# Altium footprint library Battery.PcbLib: 59 footprints (part 4 of 4)
Each footprint in its own frame and in the unit in brackets; x right, y up, seen from the top. Pads: shape width x height; smd on the part's side, far side on the other; paste and mask are expansions set on the pad; w line width, h text height; cw(c..) or ccw(c..) is an arc to the next point about the centre after c.
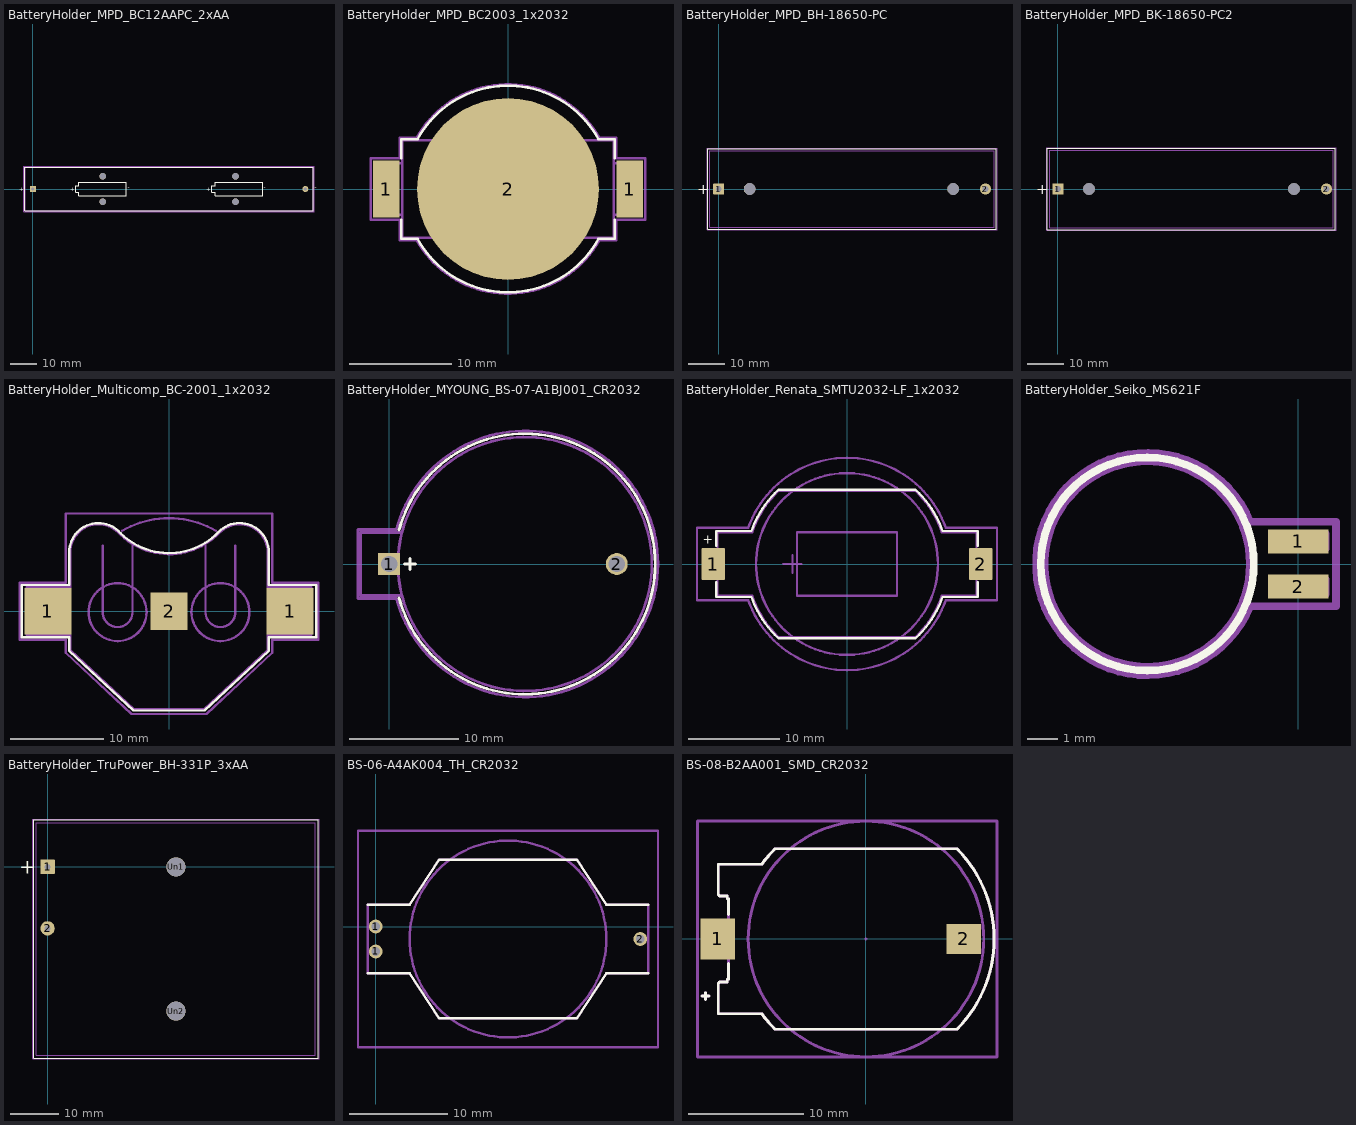
[diagram p3: the footprints below, top view; thin cyan lines are the x and y axes]

## BatteryHolder_MPD_BC12AAPC_2xAA [mm]
pads (6):
  rect 2.23x2.23 hole 1.23: 1(0,0)
  round 2.23 hole 1.23: 2(102,0)
  round 2.5 hole 2.5: Un1(26.15,4.75) Un2(26.15,-4.75) Un3(75.85,4.75) Un4(75.85,-4.75)
F.SilkS:
  lines w0.254: -3,-8.2 105,-8.2 105,8.2 -3,8.2 -3,-8.2 ; 15.975,-1.27 17.245,-1.27 17.245,-2.54 35.025,-2.54 35.025,2.54 17.245,2.54 17.245,1.27 15.975,1.27 15.975,-1.27 ; 66.975,-1.27 68.245,-1.27 68.245,-2.54 86.025,-2.54 86.025,2.54 68.245,2.54 68.245,1.27 66.975,1.27 66.975,-1.27
  text "+" at 64.912,-0.793 h1.5
  text "-" at 86.502,-0.15 h1.5
  text "-" at 35.502,-0.15 h1.5
  text "-" at 105.607,-0.15 h1.5
  text "+" at -5.193,-0.793 h1.5
  text "+" at 13.912,-0.793 h1.5
Top Assembly:
  lines w0.254: -2.9,-8.1 104.9,-8.1 104.9,8.1 -2.9,8.1 -2.9,-8.1
  text "'.Designator'" at 46.953,-0.84 h1
Top Courtyard:
  lines w0.254: -3.4,-8.6 105.4,-8.6 105.4,8.6 -3.4,8.6 -3.4,-8.6
Top Designator:
  text ".Designator" at 43.232,-0.508 h1.52

## BatteryHolder_MPD_BC2003_1x2032 [mm]
pads (3):
  rect 2.6x5.56 smd: 1(-11.905,0) 1(11.905,0)
  round 17.8 smd: 2(0,0)
F.SilkS:
  lines w0.254: -10.47,-3 -10.47,-4.885 -8.863,-4.885 ccw(c0,0) 8.865,-4.881 ; -10.47,3 -10.47,4.885 -8.863,4.885 cw(c0,0) 8.863,4.885 10.47,4.885 10.47,3 ; 8.863,-4.885 10.47,-4.885 10.47,-3
Top Assembly:
  lines w0.254: -10.35,-2.525 -12,-2.525 -12.7,-1.825 -12.7,1.825 -12,2.525 -10.35,2.525 ; 10.35,-2.525 12,-2.525 12.7,-1.825 12.7,1.825 12,2.525 10.35,2.525 ; -10.35,-4.765 10.35,-4.765 10.35,4.765 -10.35,4.765 -10.35,-4.765
  text "'.Designator'" at -4.047,-0.84 h1
Top Courtyard:
  lines w0.254: -8.94,5.01 -10.6,5.01 -10.6,3.03 -13.45,3.03 -13.45,-3.03 -10.6,-3.03 -10.6,-5.01 -8.94,-5.01 ccw(c0,0) 8.925,-5.036 ; -8.934,5.02 cw(c0,0) 8.94,5.01 10.6,5.01 10.6,3.03 13.45,3.03 13.45,-3.03 10.6,-3.03 10.6,-5.01 8.94,-5.01
Top Designator:
  text ".Designator" at -7.618,-0.508 h1.52

## BatteryHolder_MPD_BH-18650-PC [mm]
pads (4):
  rrect8% 3x3 hole 1.57: 1(0,0)
  round 3 hole 1.57: 2(72.9,0)
  round 3.2 hole 3.2: Un1(8.445,0) Un2(64.055,0)
F.SilkS:
  lines w0.254: -3.01,-11.06 75.91,-11.06 75.91,11.06 -3.01,11.06 -3.01,-11.06
  text "+" at -5.935,-1.485 h3
Top Assembly:
  lines w0.254: -2.4,-10.45 75.3,-10.45 75.3,10.45 -2.4,10.45 -2.4,-10.45
  text "+" at 2.565,-1.235 h3
  text "'.Designator'" at 32.403,-0.84 h1
Top Courtyard:
  lines w0.254: -3.15,-11.2 76.05,-11.2 76.05,11.2 -3.15,11.2 -3.15,-11.2
Top Designator:
  text ".Designator" at 27.428,-0.508 h1.52

## BatteryHolder_MPD_BK-18650-PC2 [mm]
pads (4):
  rrect8% 3x3 hole 1.57: 1(0,0)
  round 3 hole 1.57: 2(72.9,0)
  round 3.2 hole 3.2: Un1(8.445,0) Un2(64.055,0)
F.SilkS:
  lines w0.254: -2.84,-11.1 -2.84,11.1 75.34,11.1 75.34,-11.1 -2.84,-11.1
  text "+" at -5.935,-1.485 h3
Top Assembly:
  lines w0.254: -2.23,-10.49 -2.23,10.49 74.73,10.49 74.73,-10.49 -2.23,-10.49
  text "'.Designator'" at 32.203,-0.84 h1
  text "+" at 2.565,-1.235 h3
Top Courtyard:
  lines w0.254: -2.98,-11.24 -2.98,11.24 75.48,11.24 75.48,-11.24 -2.98,-11.24
Top Designator:
  text ".Designator" at 27.143,-0.508 h1.52

## BatteryHolder_Multicomp_BC-2001_1x2032 [mm]
pads (3):
  rect 5x5 smd: 1(-12.95,0) 1(12.95,0)
  rect 4x4 smd: 2(0,0)
F.SilkS:
  lines w0.254: -10.68,6.28 -10.68,2.8 -15.75,2.8 -15.75,-2.8 -10.68,-2.8 -10.68,-4.25 -3.8,-10.63 3.8,-10.63 10.68,-4.25 10.68,-2.8 15.75,-2.8 15.75,2.8 10.68,2.8 10.68,6.35 ; -10.677,6.3 cw(c-7.55,6.3) -5.18,8.34 ; -5.17,8.33 ccw(c0,13.6) 5.306,8.467 ; 5.316,8.493 cw(c7.55,6.3) 10.68,6.3
Top Assembly:
  circle w0.254: c-12.95,0 r1.175
  circle w0.254: c-5.5,-0.1 r3.1
  circle w0.254: c5.5,-0.1 r3.1
  circle w0.254: c12.95,0 r1.175
  lines w0.254: -10.555,6.3 cw(c-7.55,6.3) -5.45,8.45 ccw(c0,13.6) 5.352,8.348 ; -10.55,6.29 -10.55,2.55 -15.25,2.55 -15.25,-2.55 -10.55,-2.55 -10.55,-4.2 -3.75,-10.5 3.75,-10.5 10.55,-4.2 10.55,-2.55 15.25,-2.55 15.25,2.55 10.55,2.55 10.55,6.3 ccw(c7.55,6.3) 5.376,8.368 ; -7.1,7 -7.1,-0.1 ccw(c-5.5,-0.1) -3.9,-0.1 -3.9,7 ; -5.03,8.59 cw(c0,-0.06) 5.03,8.59 ; 3.9,7 3.9,-0.1 ccw(c5.5,-0.1) 7.1,-0.1 7.1,7
  text "'.Designator'" at -3.717,-5.73 h1
Top Courtyard:
  lines w0.254: -15.95,-3.05 -15.95,3.05 -11.05,3.05 -11.05,10.45 11.05,10.45 11.05,3.05 15.95,3.05 15.95,-3.05 11.05,-3.05 11.05,-4.45 4,-11 -4,-11 -11.05,-4.45 -11.05,-3.05 -15.95,-3.05
Top Designator:
  text ".Designator" at -7.618,-0.783 h1.52

## BatteryHolder_MYOUNG_BS-07-A1BJ001_CR2032 [mm]
pads (2):
  rect 2x2 hole 1.5: 1(0,0)
  round 2 hole 1.5: 2(20.8,0)
F.SilkS:
  lines w0.254: 0.9,-3.1 ccw(c12.4,0) 0.9,3.1 ; 1.4,0 2.4,0 ; 1.9,-0.5 1.9,0.5
Top Assembly:
  circle w0.254: c12.4,0 r11.6
  lines w0.254: 1.15,-2.875 -2.6,-2.875 -2.6,2.875 1.15,2.875
  text "'.Designator'" at 8.353,-0.84 h1
Top Courtyard:
  lines w0.254: -2.85,-3.15 0.65,-3.15 ccw(c12.4,0) 0.65,3.15 -2.85,3.15 -2.85,-3.15
Top Designator:
  text ".Designator" at 3.24,-0.508 h1.52

## BatteryHolder_Renata_SMTU2032-LF_1x2032 [mm]
pads (2):
  rrect8% 2.6x3.5 smd: 1(-14.7,0) 2(14.7,0)
F.SilkS:
  lines w0.254: -14.37,-2.01 -14.37,-3.62 -10.514,-3.62 ccw(c0.062,0.04) -7.544,-8.17 7.544,-8.17 ccw(c-0.062,0.04) 10.514,-3.62 14.37,-3.62 14.37,-2.01 ; -14.37,2.01 -14.37,3.62 -10.514,3.62 cw(c0.062,-0.04) -7.544,8.17 7.544,8.17 cw(c-0.062,-0.04) 10.514,3.62 14.37,3.62 14.37,2.01
  text "+" at -15.878,2.207 h1
Top Assembly:
  circle w0.254: c0,0 r10
  lines w0.254: -7,0 -5,0 ; -6,-1 -6,1 ; -14.25,-3.5 -14.25,3.5 -10.428,3.5 cw(c-0.005,0.003) -7.496,8.05 7.497,8.05 cw(c0.005,0.003) 10.428,3.5 14.25,3.5 14.25,-3.5 10.428,-3.5 cw(c0.005,-0.003) 7.496,-8.05 -7.497,-8.05 cw(c-0.005,-0.003) -10.428,-3.5 -14.25,-3.5
  text "'.Designator'" at -4.047,-0.84 h1
Top Courtyard:
  lines w0.254: -16.5,-4 -16.5,4 -10.86,4 cw(c0,0.165) 10.86,4 16.5,4 16.5,-4 10.86,-4 cw(c0,-0.165) -10.86,-4 -16.5,-4
Top Designator:
  text ".Designator" at -7.618,-0.508 h1.52
Cmts.User:
  lines w0.254: -5.5,-3.5 -5.5,3.5 5.5,3.5 5.5,-3.5 -5.5,-3.5
  text "Adhesive fixation" at -2.955,3.263 h0.5

## BatteryHolder_Seiko_MS621F [mm]
pads (2):
  rect 2x0.8 smd: 1(0,0.75) 2(0,-0.75)
F.SilkS:
  circle w0.254: c-5,0 r3.53
Top Assembly:
  circle w0.254: c-5,0 r3.4
  lines w0.254: 0.9,-1 0.9,-0.5 ; 0.9,0.5 0.9,1
  text "'.Designator'" at -3.073,-0.668 h0.75
Top Courtyard:
  lines w0.254: -1.591,1.403 ccw(c-5,0) -1.59,-1.4 1.25,-1.4 1.25,1.4 -1.59,1.4
Top Designator:
  text ".Designator" at -10.563,-0.508 h1.52

## BatteryHolder_TruPower_BH-331P_3xAA [mm]
pads (4):
  rrect8% 3x3 hole 1.2: 1(0,0)
  round 3 hole 1.2: 2(0,-12.8)
  round 4 hole 4: Un1(26.7,0) Un2(26.7,-30)
F.SilkS:
  lines w0.254: -2.91,-39.76 -2.91,9.76 56.31,9.76 56.31,-39.76 -2.91,-39.76
  text "+" at -5.935,-1.435 h3
Top Assembly:
  lines w0.254: -2.3,-39.15 -2.3,9.15 55.7,9.15 55.7,-39.15 -2.3,-39.15
  text "'.Designator'" at 22.653,-15.84 h1
Top Courtyard:
  lines w0.254: -3.05,-39.9 -3.05,9.9 56.45,9.9 56.45,-39.9 -3.05,-39.9
Top Designator:
  text ".Designator" at 17.628,-15.508 h1.52

## BS-06-A4AK004_TH_CR2032 [mm]
pads (3):
  round 1.4 hole 0.9: 1(0,-2.54) 1(0,0) 2(26.9,-1.27)
F.SilkS:
  lines w0.254: -0.8,-4.77 3.45,-4.77 6.45,-9.32 20.45,-9.32 23.45,-4.77 27.7,-4.77 ; -0.8,2.23 3.45,2.23 6.45,6.78 20.45,6.78 23.45,2.23 27.7,2.23
Top Assembly:
  lines w0.254: -0.8,-4.77 -0.8,2.23 3.45,2.23 6.45,6.78 20.45,6.78 23.45,2.23 27.7,2.23 27.7,-4.77 23.45,-4.77 20.45,-9.32 6.45,-9.32 3.45,-4.77 -0.8,-4.77 ; 3.45,-1.27 cw(c13.45,-1.27) 23.45,-1.27 cw(c13.45,-1.27) 3.45,-1.27
  text "'.Designator'" at 8.247,-2.401 h1.27
Top Courtyard:
  lines w0.254: -1.8,-12.27 -1.8,9.73 28.7,9.73 28.7,-12.27 -1.8,-12.27

## BS-08-B2AA001_SMD_CR2032 [mm]
pads (2):
  rect 3x3.6 smd: 1(-12.9,0)
  rect 3x2.6 smd: 2(8.5,0)
F.SilkS:
  lines w0.254: -14.257,-4.973 -13.657,-4.973 ; -13.957,-5.273 -13.957,-4.673 ; -11.97,-2.12 -11.97,-3.5 -12.07,-3.5 -12.07,-3.75 -12.109,-3.75 -12.12,-3.75 -12.758,-3.75 -12.85,-3.889 -12.85,-6.5 -9.059,-6.5 ccw(c0,0) -7.918,-7.85 7.918,-7.85 ccw(c0,0) 7.918,7.85 -7.918,7.85 ccw(c0,0) -9.059,6.5 -12.85,6.5 -12.85,3.889 -12.758,3.75 -12.12,3.75 -12.07,3.75 -12.07,3.5 -11.97,3.5 -11.97,2.12
Top Component Center:
  lines w0.127: -0.127,0 0.127,0 ; 0,-0.127 0,0.127
Top Assembly:
  circle w0.254: c0,0 r10.25
  lines w0.254: -14.257,-4.973 -13.657,-4.973 ; -13.957,-5.273 -13.957,-4.673 ; -12.85,-6.5 -12.85,-3.889 -12.758,-3.75 -12.12,-3.75 -12.109,-3.75 -12.07,-3.75 -12.07,-3.5 -11.97,-3.5 -11.97,3.5 -12.07,3.5 -12.07,3.75 -12.12,3.75 -12.758,3.75 -12.85,3.889 -12.85,6.5 -9.059,6.5 cw(c0,0) -7.918,7.85 7.918,7.85 cw(c0,0) 7.918,-7.85 -7.918,-7.85 cw(c0,0) -9.059,-6.5 -12.85,-6.5
  text "'.Designator'" at -5.203,-1.131 h1.27
Top Courtyard:
  lines w0.254: -14.65,-10.25 -14.65,10.25 11.4,10.25 11.4,-10.25 -14.65,-10.25
3D body "BS-08-B2AA001.stp": height 5.3, standoff 0, extent -13.6,-7.85 11.138,7.85